# Altium schematic symbol library fuelCell_Parts.SchLib: 8 symbols
Pins are listed as number, name and electrical type; pins without a type are passive.

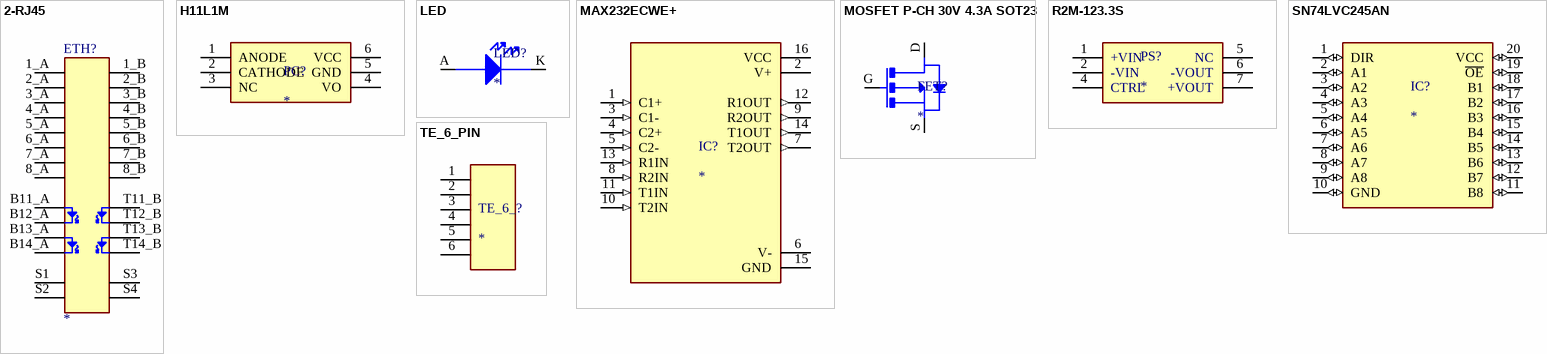
[diagram p0: symbols 2-RJ45 to TE_6_PIN]

## 2-RJ45
designator ETH?
Jack Modular Connector 8p8c (RJ45, Ethernet) 90° Angle (Right) Shielded, EMI Finger Cat5; ComponentLink1Description: Mouser Part; ComponentLink1URL: https://www.mouser.ca/ProductDetail/TRP-Connector-Bel/1840855-3?qs=SRYZG9HaIQ2NEIyvH9raPA%3D%3D
footprint RJ45
footprint RJ45
pins: 1_A +, 1_B SHIELD, 2_A +, 2_B SHIELD, 3_A +, 3_B SHIELD, 4_A +, 4_B SHIELD, 5_A +, 5_B SHIELD, 6_A +, 6_B SHIELD, 7_A +, 7_B SHIELD, 8_A +, 8_B SHIELD, B11_A 9, B12_A 10, B13_A 11, B14_A 12, S1 13, S2 13, S3 SHIELD, S4 SHIELD, T11_B SHIELD, T12_B SHIELD, T13_B B13_B, T14_B SHIELD

## H11L1M
designator PC?
Logic Output Optocouplers Optocoupler LC Schmitt Trigger
footprint H11L1M
pins: 1 SHIELD, 2 SHIELD, 3 SHIELD, 4 SHIELD, 5 SHIELD, 6 SHIELD
text: ANODE; VCC; CATHODE; GND; NC; VO

## LED
designator LED?
Standard LEDs - Through Hole Blue Round LED /; ComponentLink1Description: LED, browse for colors; ComponentLink1URL: https://www.mouser.ca/ProductDetail/Cree-LED/C503B-BCN-CV0Z0461?qs=sGAEpiMZZMvHYEB9WUp7EhB9pKgyKqOlNcIzkxUZOjk%3D
footprint LED
pins: A S, K S

## MAX232ECWE+
designator IC?
RS-232 Interface IC +/-15kV ESD-Protected, +5V RS-232 Transceivers
footprint MAX232ECWE+
pins: 1 C1+ (in), 2 V+ (power), 3 C1- (in), 4 C2+ (in), 5 C2- (in), 6 V- (power), 7 T2OUT (out), 8 R2IN (in), 9 R2OUT (out), 10 T2IN (in), 11 T1IN (in), 12 R1OUT (out), 13 R1IN (in), 14 T1OUT (out), 15 GND (power), 16 VCC (power)

## MOSFET P-CH 30V 4.3A SOT23
designator FET?
P-Channel 30 V 4.3A (Ta) 1.38W (Ta) Surface Mount SOT-23-3
footprint MOSFET P-CH 30V 4.3A SOT23
pins: D, G, S

## R2M-123.3S
designator PS?
Isolated DC/DC Converters - Through Hole 2W 4.5-18Vin 3.3Vout 500mA
footprint R2M-123.3S
pins: 1 +VIN, 2 S, 4 S, 5 S, 6 S, 7 S
text: NC; -VIN; -VOUT; CTRL; +VOUT

## SN74LVC245AN
designator IC?
Bus Transceivers Tri-State Octal Bus
footprint SN74LVC245AN
pins: 1 DIR (io), 2 A1 (io), 3 A2 (io), 4 A3 (io), 5 A4 (io), 6 A5 (io), 7 A6 (io), 8 A7 (io), 9 A8 (io), 10 GND (io), 11 B8 (io), 12 B7 (io), 13 B6 (io), 14 B5 (io), 15 B4 (io), 16 B3 (io), 17 B2 (io), 18 B1 (io), 19 ~{OE} (io), 20 VCC (io)

## TE_6_PIN
designator TE_6_?
footprint TE_6_PIN
pins: 1, 2, 3, 4, 5, 6